# Altium footprint library NG6011.PcbLib: 20 footprints (part 1 of 2)
Each footprint in its own frame and in the unit in brackets; x right, y up, seen from the top. Pads: shape width x height; smd on the part's side, far side on the other; paste and mask are expansions set on the pad; w line width, h text height; cw(c..) or ccw(c..) is an arc to the next point about the centre after c.
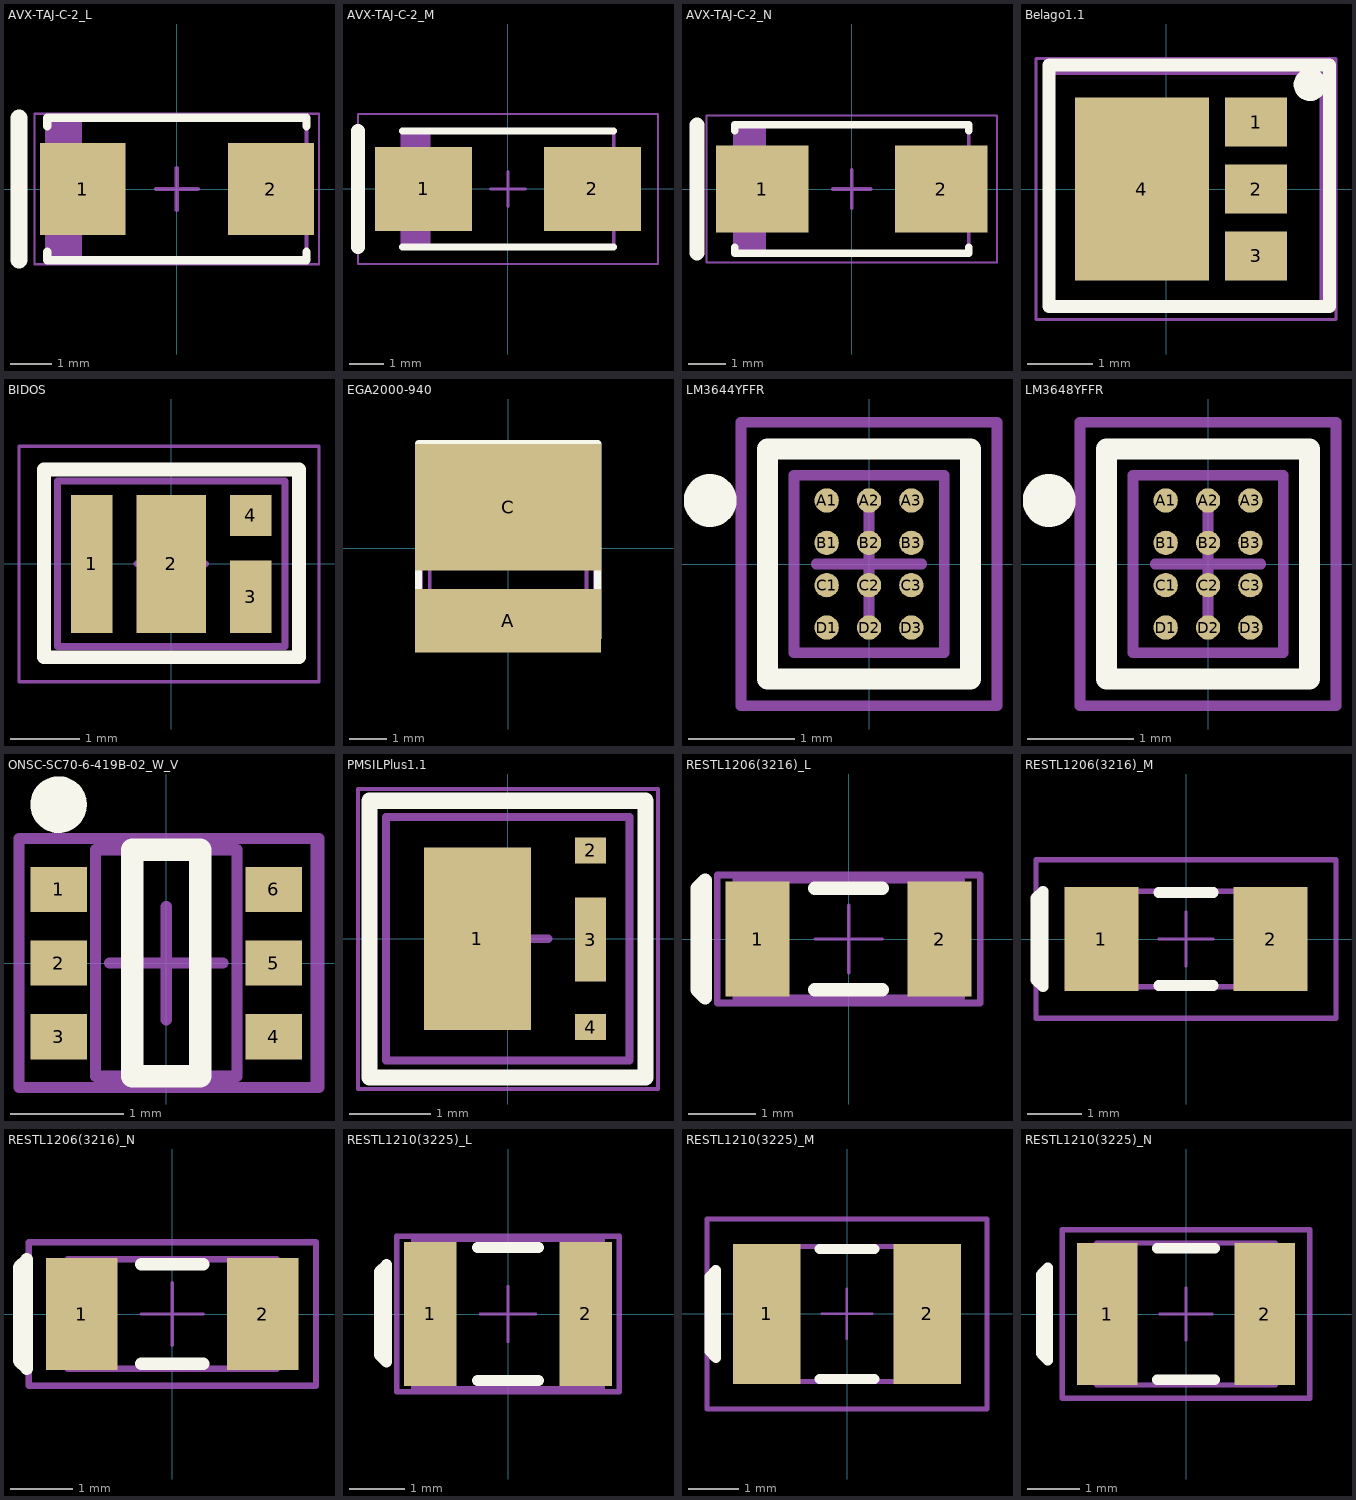
[diagram p0: the footprints below, top view; thin cyan lines are the x and y axes]

## AVX-TAJ-C-2_L [mm] "Molded Capacitor, 2-Leads, Body 6.2x3.4mm, IPC High Density"
height 2.8
pads (2):
  rect 2.05x2.2 smd: 1(-2.25,0) 2(2.25,0)
Top Overlay:
  lines w0.2: -3.1,-1.5 -3.1,-1.7 3.1,-1.7 3.1,-1.5 ; -3.1,1.5 -3.1,1.7 3.1,1.7 3.1,1.5
  lines w0.4: -3.775,-1.7 -3.775,1.7
Top Assembly:
  rectangle: -3.1,-1.7 -2.266,1.7
  lines w0.1: -3.1,-1.7 -3.1,1.7 3.1,1.7 3.1,-1.7 -3.1,-1.7
  text ".Designator" at 0,-0.001 h1
Top Component Outline:
  lines w0.1: -3.1,-1.7 -3.1,1.7 3.1,1.7 3.1,-1.7 -3.1,-1.7
Top Courtyard:
  lines w0.05: -3.4,-1.8 3.4,-1.8 3.4,1.8 -3.4,1.8 -3.4,-1.8
  lines w0.1: -0.5,0 0.5,0 ; 0,-0.5 0,0.5
3D body "CAPMP6032X28L.step": height 2.8, standoff 0, extent -3.32,-1.7 3.32,1.7

## AVX-TAJ-C-2_M [mm] "Molded Capacitor, 2-Leads, Body 6.2x3.4mm, IPC Low Density"
height 2.8
pads (2):
  rect 2.85x2.45 smd: 1(-2.475,0) 2(2.475,0)
Top Overlay:
  lines w0.2: -3.1,-1.7 3.1,-1.7 ; -3.1,1.7 3.1,1.7
  lines w0.4: -4.4,-1.7 -4.4,1.7
Top Assembly:
  rectangle: -3.1,-1.7 -2.266,1.7
  lines w0.1: -3.1,-1.7 -3.1,1.7 3.1,1.7 3.1,-1.7 -3.1,-1.7
  text ".Designator" at 0,-0.001 h1
Top Component Outline:
  lines w0.1: -3.1,-1.7 -3.1,1.7 3.1,1.7 3.1,-1.7 -3.1,-1.7
Top Courtyard:
  lines w0.05: -4.4,-2.2 4.4,-2.2 4.4,2.2 -4.4,2.2 -4.4,-2.2
  lines w0.1: -0.5,0 0.5,0 ; 0,-0.5 0,0.5
3D body "CAPMP6032X28M.step": height 2.8, standoff 0, extent -3.32,-1.7 3.32,1.7

## AVX-TAJ-C-2_N [mm] "Molded Capacitor, 2-Leads, Body 6.2x3.4mm, IPC Medium Density"
height 2.8
pads (2):
  rect 2.45x2.3 smd: 1(-2.375,0) 2(2.375,0)
Top Overlay:
  lines w0.2: -3.1,-1.55 -3.1,-1.7 3.1,-1.7 3.1,-1.55 ; -3.1,1.55 -3.1,1.7 3.1,1.7 3.1,1.55
  lines w0.4: -4.1,-1.7 -4.1,1.7
Top Assembly:
  rectangle: -3.1,-1.7 -2.266,1.7
  lines w0.1: -3.1,-1.7 -3.1,1.7 3.1,1.7 3.1,-1.7 -3.1,-1.7
  text ".Designator" at 0,-0.001 h1
Top Component Outline:
  lines w0.1: -3.1,-1.7 3.1,-1.7 3.1,1.7 -3.1,1.7 -3.1,-1.7
Top Courtyard:
  lines w0.05: -3.85,-1.95 -3.85,1.95 3.85,1.95 3.85,-1.95 -3.85,-1.95
  lines w0.1: -0.5,0 0.5,0 ; 0,-0.5 0,0.5
3D body "CAPMP6032X28N.step": height 2.8, standoff 0, extent -3.32,-1.7 3.32,1.7

## Belago1.1 [mm] "SOT23, 6-Leads, Body 2x1.25mm, Pitch 0.65mm"
height 1.1
pads (4):
  rect 0.95x0.75 smd: 1(1.375,1.025) 2(1.375,0) 3(1.375,-1.025)
  rect 2.05x2.8 smd: 4(-0.375,0)
Top Overlay:
  circle w0.25: c2.2,1.6 r0.125
  lines w0.2: -1.8,-1.8 -1.8,1.9 2.5,1.9 2.5,-1.8 -1.8,-1.8
Top Assembly:
  lines w0.1: -1.8,-1.8 2.4,-1.8 2.4,1.8 -1.8,1.8 -1.8,-1.8
  text "'.Designator'" at 0,0.187 h1
Top Component Outline:
  lines w0.1: -1.8,-1.8 2.4,-1.8 2.4,1.8 -1.8,1.8 -1.8,-1.8
Top Courtyard:
  lines w0.05: -2,-2 2.6,-2 2.6,2 -2,2 -2,-2
  lines w0.1: -0.5,0 0.5,0 ; 0,-0.5 0,0.5
3D body "Belago1.1 v3.step": height 4.25, standoff 1, extent -1.8,-1.8 2.4,1.8

## BIDOS [mm] "SV105Q131A-940"
height 1.1
pads (4):
  rect 0.6x2 smd paste-0.1: 1(-1.15,0)
  rect 1x2 smd paste-0.1: 2(0,0)
  rect 0.6x1.05 smd paste-0.1: 3(1.15,-0.475)
  rect 0.6x0.6 smd paste-0.1: 4(1.15,0.7)
Top Overlay:
  lines w0.2: -1.845,-1.355 -1.845,1.368 1.852,1.368 1.852,-1.355 -1.845,-1.355
Top Assembly:
  lines w0.1: -1.845,-1.355 1.852,-1.355 1.852,1.368 -1.845,1.368 -1.845,-1.355
  text "'.Designator'" at 0,0.187 h1
Top Component Outline:
  lines w0.1: -1.65,-1.2 1.65,-1.199 1.65,1.2 -1.65,1.199 -1.65,-1.2
Top Courtyard:
  lines w0.05: -2.206,-1.71 2.14,-1.71 2.14,1.704 -2.206,1.704 -2.206,-1.71
  lines w0.1: -0.5,0 0.5,0 ; 0,-0.5 0,0.5
3D body "V105C131A_940_20200702_geometry.STEP": height 1.5, standoff 0, extent -1.75,-1.4 1.75,1.4
3D body "Bidos v1.step": height 8.97, standoff 0.1, extent -6.232,-4.543 6.232,4.543

## EGA2000-940 [mm] "ams Industrial High-Power Flood Illuminator 4.1 mm x 4.1 mm x 1.38 mm ±0.100 mm"
pads (2):
  rect 5x1.7 smd paste-5 mask-5: A(0,-1.946)
  rect 5x3.4 smd paste-5 mask-5: C(0,1.104)
Top Layer:
  rectangle: -0.25,2.204 0.25,2.704
  rectangle: -0.25,-2.496 0.25,-1.996
Top Overlay:
  lines w0.2: -2.402,-2.402 -2.402,2.804 2.405,2.804 2.405,-2.402 -2.402,-2.402
  lines w0.25: -2.3,2.501 2.299,2.501
Top Paste:
  region: 2.1,0.554 0.2,0.554 0.2,-0.596 2.1,-0.596
  rectangle: -2.1,-0.596 -0.2,0.554
  region: 2.1,2.104 0.2,2.104 0.2,0.954 2.1,0.954
  rectangle: -2.1,0.954 -0.2,2.104
  region: 2.1,-1.096 0.2,-1.096 0.2,-2.096 2.1,-2.096
  rectangle: -2.1,-2.096 -0.2,-1.096
Top Solder:
  rectangle: -2.2,-0.696 2.2,2.204
  rectangle: -2.2,-2.196 2.2,-0.996
  rectangle: -0.25,-2.596 0.25,-2.046
  rectangle: -0.25,2.054 0.25,2.604
Top Assembly:
  lines w0.1: -2.1,-2.1 2.1,-2.1 2.1,2.1 -2.1,2.1 -2.1,-2.1
  text "'.Designator'" at 0,0.187 h1
Top Component Outline:
  lines w0.1: -2.1,2.1 -2.1,-2.1 2.1,-2.1 ; -2.095,2.101 2.105,2.101 ; 2.105,-2.102 2.105,2.098
Top Courtyard:
  lines w0.05: -2.3,-2.3 -2.3,2.3 2.3,2.3 2.3,-2.3 -2.3,-2.3
  lines w0.1: -0.5,0 0.5,0 ; 0,-0.5 0,0.5
3D body: height 1.38, standoff 0, extent -2.095,-2.096 2.105,2.101

## LM3644YFFR [mm] "DSBGA 12 (pitch 0.4mm)"
height 0.68
pads (12):
  round 0.23 smd paste-1000 mask-1000: A1(-0.4,0.6) A2(0,0.6) A3(0.4,0.6) B1(-0.4,0.2) B2(0,0.2) B3(0.4,0.2) C1(-0.4,-0.2) C2(0,-0.2) C3(0.4,-0.2) D1(-0.4,-0.6) D2(0,-0.6) D3(0.4,-0.6)
Top Overlay:
  circle w0.25: c-1.5,0.6 r0.125
  lines w0.2: -0.959,-1.088 0.959,-1.088 0.959,1.088 -0.959,1.088 -0.959,-1.088
Top Paste:
  drawing of 12 lines, arcs and shapes, not listed
Top Solder:
  circle w0.165: c-0.4,0.6 r0.082
  circle w0.165: c-0.4,0.2 r0.082
  circle w0.165: c-0.4,-0.2 r0.082
  circle w0.165: c-0.4,-0.6 r0.082
  circle w0.165: c0.4,0.6 r0.082
  circle w0.165: c0.4,0.2 r0.082
  circle w0.165: c0.4,-0.2 r0.082
  circle w0.165: c0.4,-0.6 r0.082
  circle w0.165: c0,0.6 r0.082
  circle w0.165: c0,0.2 r0.082
  circle w0.165: c0,-0.2 r0.082
  circle w0.165: c0,-0.6 r0.082
Top Assembly:
  lines w0.1: -1.209,-1.338 1.209,-1.338 1.209,1.338 -1.209,1.338 -1.209,-1.338
  text ".Designator" at 0,-0.001 h1
Top Component Outline:
  lines w0.1: -0.709,-0.837 -0.709,0.837 0.709,0.837 0.709,-0.837 -0.709,-0.837
Top Courtyard:
  lines w0.05: -1.209,-1.338 1.209,-1.338 1.209,1.338 -1.209,1.338 -1.209,-1.338
  lines w0.1: -0.5,0 0.5,0 ; 0,-0.5 0,0.5
3D body "IC_Texas_Instruments_TPS63050YFFR_eec.STEP": height 0.25, standoff 0, extent -1.209,-1.338 1.209,1.338

## LM3648YFFR [mm] "DSBGA 12 (pitch 0.4mm)"
height 0.68
pads (12):
  round 0.23 smd paste-1000 mask-1000: A1(-0.4,0.6) A2(0,0.6) A3(0.4,0.6) B1(-0.4,0.2) B2(0,0.2) B3(0.4,0.2) C1(-0.4,-0.2) C2(0,-0.2) C3(0.4,-0.2) D1(-0.4,-0.6) D2(0,-0.6) D3(0.4,-0.6)
Top Overlay:
  circle w0.25: c-1.5,0.6 r0.125
  lines w0.2: -0.959,-1.088 0.959,-1.088 0.959,1.088 -0.959,1.088 -0.959,-1.088
Top Paste:
  drawing of 12 lines, arcs and shapes, not listed
Top Solder:
  circle w0.165: c-0.4,0.6 r0.082
  circle w0.165: c-0.4,0.2 r0.082
  circle w0.165: c-0.4,-0.2 r0.082
  circle w0.165: c-0.4,-0.6 r0.082
  circle w0.165: c0.4,0.6 r0.082
  circle w0.165: c0.4,0.2 r0.082
  circle w0.165: c0.4,-0.2 r0.082
  circle w0.165: c0.4,-0.6 r0.082
  circle w0.165: c0,0.6 r0.082
  circle w0.165: c0,0.2 r0.082
  circle w0.165: c0,-0.2 r0.082
  circle w0.165: c0,-0.6 r0.082
Top Assembly:
  lines w0.1: -1.209,-1.338 1.209,-1.338 1.209,1.338 -1.209,1.338 -1.209,-1.338
  text ".Designator" at 0,-0.001 h1
Top Component Outline:
  lines w0.1: -0.709,-0.837 -0.709,0.837 0.709,0.837 0.709,-0.837 -0.709,-0.837
Top Courtyard:
  lines w0.05: -1.209,-1.338 1.209,-1.338 1.209,1.338 -1.209,1.338 -1.209,-1.338
  lines w0.1: -0.5,0 0.5,0 ; 0,-0.5 0,0.5
3D body "IC_Texas_Instruments_TPS63050YFFR_eec.STEP": height 0.25, standoff 0, extent -1.209,-1.338 1.209,1.338

## ONSC-SC70-6-419B-02_W_V [mm] "SOT23, 6-Leads, Body 2x1.25mm, Pitch 0.65mm"
height 1.1
pads (6):
  rect 0.5x0.4 smd: 1(-0.95,0.65) 2(-0.95,0) 3(-0.95,-0.65) 4(0.95,-0.65) 5(0.95,0) 6(0.95,0.65)
Top Overlay:
  circle w0.25: c-0.95,1.4 r0.125
  lines w0.2: -0.3,-1 0.3,-1 0.3,1 -0.3,1 -0.3,-1
Top Assembly:
  lines w0.1: -1.3,-1.1 -1.3,1.1 1.35,1.1 1.35,-1.1 -1.3,-1.1
  text "'.Designator'" at 0,0.187 h1
Top Component Outline:
  lines w0.1: -0.625,-1 0.625,-1 0.625,1 -0.625,1 -0.625,-1
Top Courtyard:
  lines w0.05: -1.3,-1.1 -1.3,1.1 1.3,1.1 1.3,-1.1 -1.3,-1.1
  lines w0.1: -0.5,0 0.5,0 ; 0,-0.5 0,0.5
3D body "User Library-SC70-6.step": height 1.08, standoff 0.13, extent -1.05,-1 1.05,1

## PMSILPlus1.1 [mm] "SOT23, 6-Leads, Body 2x1.25mm, Pitch 0.65mm"
height 1.1
pads (4):
  rect 1.32x2.25 smd: 1(-0.375,0)
  rect 0.38x0.32 smd: 2(1.023,1.09) 4(1.023,-1.09)
  rect 0.38x1.04 smd: 3(1.023,-0.01)
Top Overlay:
  lines w0.2: -1.705,-1.71 -1.705,1.704 1.701,1.704 1.701,-1.71 -1.705,-1.71
Top Assembly:
  lines w0.1: -1.705,-1.71 1.701,-1.71 1.701,1.704 -1.705,1.704 -1.705,-1.71
  text "'.Designator'" at 0,0.187 h1
Top Component Outline:
  lines w0.1: -1.5,-1.5 -1.5,1.5 1.5,1.5 1.5,-1.5 -1.5,-1.5
Top Courtyard:
  lines w0.05: -1.845,-1.853 1.852,-1.853 1.852,1.848 -1.845,1.848 -1.845,-1.853
  lines w0.1: -0.5,0 0.5,0 ; 0,-0.5 0,0.5
3D body "PMSILPlus1.1.step": height 8.5, standoff 0, extent -6.234,-4.544 6.234,4.544

## RESTL1206(3216)_L [mm] "Chip Resistor, Body 3.2x1.6mm, IPC High Density"
height 0.75
pads (2):
  rect 0.95x1.7 smd: 1(-1.35,0) 2(1.35,0)
Top Overlay:
  lines w0.2: -0.5,-0.75 0.5,-0.75 ; -0.5,0.75 0.5,0.75 ; -2.125,-0.875 -2.25,-0.75 -2.25,0.75 -2.125,0.875 -2.125,-0.875 ; -2.125,-0.875 -2.125,-0.875
Top Assembly:
  lines w0.1: -1.95,-0.95 1.95,-0.95 1.95,0.95 -1.95,0.95 -1.95,-0.95
  text "'.Designator'" at 0,0 h1
Top Component Outline:
  lines w0.1: -1.675,-0.875 -1.675,0.875 1.675,0.875 1.675,-0.875 -1.675,-0.875
Top Courtyard:
  lines w0.05: -0.5,0 0.5,0 ; 0,-0.5 0,0.5 ; -1.95,-0.95 -1.95,0.95 1.95,0.95 1.95,-0.95 -1.95,-0.95
3D body "TLJA107M006R0500.STEP": height 1.8, standoff 0, extent -1.6,-0.8 1.6,0.8
3D body: height 0.75, standoff 0, extent 1.181,-0.874 1.675,0.875
3D body: height 0.75, standoff 0, extent -1.674,-0.874 -1.18,0.875

## RESTL1206(3216)_M [mm] "Chip Resistor, Body 3.2x1.6mm, IPC Low Density"
height 0.75
pads (2):
  rect 1.35x1.9 smd: 1(-1.55,0) 2(1.55,0)
Top Overlay:
  lines w0.2: -0.5,-0.85 0.5,-0.85 ; -0.5,0.85 0.5,0.85 ; -2.625,-0.875 -2.625,0.875 -2.75,0.75 -2.75,-0.75 -2.625,-0.875 ; -2.625,-0.875 -2.625,-0.875
Top Assembly:
  lines w0.1: -2.75,-1.45 2.75,-1.45 2.75,1.45 -2.75,1.45 -2.75,-1.45
  text "'.Designator'" at 0,0 h1
Top Component Outline:
  lines w0.1: -1.675,-0.875 -1.675,0.875 1.675,0.875 1.675,-0.875 -1.675,-0.875
Top Courtyard:
  lines w0.05: -0.5,0 0.5,0 ; 0,-0.5 0,0.5 ; -2.75,-1.45 2.75,-1.45 2.75,1.45 -2.75,1.45 -2.75,-1.45
3D body "TLJA107M006R0500.STEP": height 1.8, standoff 0, extent -1.6,-0.8 1.6,0.8
3D body: height 0.75, standoff 0, extent 1.181,-0.874 1.675,0.875
3D body: height 0.75, standoff 0, extent -1.674,-0.874 -1.18,0.875

## RESTL1206(3216)_N [mm] "Chip Resistor, Body 3.2x1.6mm, IPC Medium Density"
height 0.75
pads (2):
  rect 1.15x1.8 smd: 1(-1.45,0) 2(1.45,0)
Top Overlay:
  lines w0.2: -0.5,-0.8 0.5,-0.8 ; -0.5,0.8 0.5,0.8 ; -2.329,-0.875 -2.329,0.875 -2.454,0.75 -2.454,-0.75 -2.329,-0.875 ; -2.329,-0.875 -2.329,-0.875
Top Assembly:
  lines w0.1: -2.3,-1.15 -2.3,1.15 2.3,1.15 2.3,-1.15 -2.3,-1.15
  text "'.Designator'" at 0,0 h1
Top Component Outline:
  lines w0.1: -1.675,-0.875 1.675,-0.875 1.675,0.875 -1.675,0.875 -1.675,-0.875
Top Courtyard:
  lines w0.05: -0.5,0 0.5,0 ; 0,-0.5 0,0.5 ; -2.301,-1.15 2.299,-1.15 2.299,1.15 -2.301,1.15 -2.301,-1.15
3D body "TLJA107M006R0500.STEP": height 1.8, standoff 0, extent -1.6,-0.8 1.6,0.8
3D body: height 0.75, standoff 0, extent -1.674,-0.874 -1.18,0.875
3D body: height 0.75, standoff 0, extent 1.181,-0.874 1.675,0.875

## RESTL1210(3225)_L [mm] "Chip Resistor, Body 3.2x2.5mm, IPC High Density"
height 0.71
pads (2):
  rect 0.95x2.6 smd: 1(-1.4,0) 2(1.4,0)
Top Overlay:
  lines w0.2: -0.55,-1.2 0.55,-1.2 ; -0.55,1.2 0.55,1.2 ; -2.186,-0.864 -2.186,0.886 -2.311,0.761 -2.311,-0.739 -2.186,-0.864 ; -2.186,-0.864 -2.186,-0.864
Top Assembly:
  lines w0.1: -2,-1.4 2,-1.4 2,1.4 -2,1.4 -2,-1.4
  text "'.Designator'" at 0,0 h1
Top Component Outline:
  lines w0.1: -1.7,-1.35 -1.7,1.35 1.7,1.35 1.7,-1.35 -1.7,-1.35
Top Courtyard:
  lines w0.05: -0.5,0 0.5,0 ; 0,-0.5 0,0.5 ; -2,-1.4 2,-1.4 2,1.4 -2,1.4 -2,-1.4
3D body: height 0.71, standoff 0, extent 1.179,-1.351 1.698,1.349
3D body: height 0.71, standoff 0, extent -1.698,-1.349 -1.178,1.351
3D body: height 0.71, standoff 0, extent -1.182,-1.35 1.182,1.35

## RESTL1210(3225)_M [mm] "Chip Resistor, Body 3.2x2.5mm, IPC Low Density"
height 0.71
pads (2):
  rect 1.35x2.8 smd: 1(-1.6,0) 2(1.6,0)
Top Overlay:
  lines w0.2: -0.55,-1.3 0.55,-1.3 ; -0.55,1.3 0.55,1.3 ; -2.625,-0.875 -2.625,0.875 -2.75,0.75 -2.75,-0.75 -2.625,-0.875 ; -2.625,-0.875 -2.625,-0.875
Top Assembly:
  lines w0.1: -2.8,-1.9 2.8,-1.9 2.8,1.9 -2.8,1.9 -2.8,-1.9
  text "'.Designator'" at 0,0 h1
Top Component Outline:
  lines w0.1: -1.7,-1.35 -1.7,1.35 1.7,1.35 1.7,-1.35 -1.7,-1.35
Top Courtyard:
  lines w0.05: -0.5,0 0.5,0 ; 0,-0.5 0,0.5 ; -2.8,-1.9 -2.8,1.9 2.8,1.9 2.8,-1.9 -2.8,-1.9
3D body: height 0.71, standoff 0, extent -1.184,-1.351 1.18,1.349
3D body: height 0.71, standoff 0, extent -1.7,-1.35 -1.18,1.35
3D body: height 0.71, standoff 0, extent 1.177,-1.351 1.697,1.349

## RESTL1210(3225)_N [mm] "Chip Resistor, Body 3.2x2.5mm, IPC Medium Density"
height 0.71
pads (2):
  rect 1.15x2.7 smd: 1(-1.5,0) 2(1.5,0)
Top Overlay:
  lines w0.2: -0.55,-1.25 0.55,-1.25 ; -0.55,1.25 0.55,1.25 ; -2.625,-0.875 -2.625,0.875 -2.75,0.75 -2.75,-0.75 -2.625,-0.875 ; -2.625,-0.875 -2.625,-0.875
Top Assembly:
  lines w0.1: -2.35,-1.6 -2.35,1.6 2.35,1.6 2.35,-1.6 -2.35,-1.6
  text "'.Designator'" at 0,0 h1
Top Component Outline:
  lines w0.1: -1.7,-1.35 1.7,-1.35 1.7,1.35 -1.7,1.35 -1.7,-1.35
Top Courtyard:
  lines w0.05: -0.5,0 0.5,0 ; 0,-0.5 0,0.5 ; -2.35,-1.6 2.35,-1.6 2.35,1.6 -2.35,1.6 -2.35,-1.6
3D body: height 0.71, standoff 0, extent -1.182,-1.35 1.182,1.35
3D body: height 0.71, standoff 0, extent -1.698,-1.349 -1.178,1.351
3D body: height 0.71, standoff 0, extent 1.179,-1.351 1.698,1.349